# Altium footprint library MolexModularJacks.PcbLib: 1 footprints
Each footprint in its own frame and in the unit in brackets; x right, y up, seen from the top. Pads: shape width x height; smd on the part's side, far side on the other; paste and mask are expansions set on the pad; w line width, h text height; cw(c..) or ccw(c..) is an arc to the next point about the centre after c.
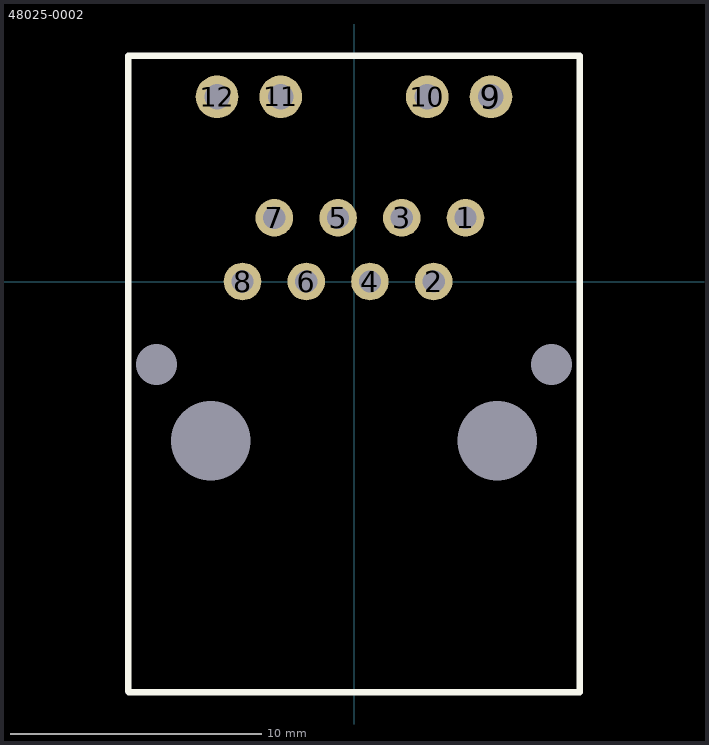
[diagram p0: the footprint, top view; thin cyan lines are the x and y axes]

## 48025-0002 [mm] "Modular RJ45 Jack w/ Magnetics & LEDs"
pads (16):
  round 1.5 hole 0.89: 1(4.445,2.54) 2(3.175,0) 3(1.905,2.54) 4(0.635,0) 5(-0.635,2.54) 6(-1.905,0) 7(-3.175,2.54) 8(-4.445,0)
  round 1.7 hole 1.02: 9(5.461,7.366) 10(2.921,7.366) 11(-2.921,7.366) 12(-5.461,7.366)
  round 0 hole 1.63 unplated: ""(-7.874,-3.302) ""(7.874,-3.302)
  round 0 hole 3.18 unplated: ""(-5.715,-6.35) ""(5.715,-6.35)
Top Overlay:
  lines w0.254: -9,-16.35 -9,9 9,9 9,-16.375 -8.975,-16.375 -9,-16.35
3D body: height 14.9, standoff 0, extent -9.127,-16.502 9.127,9.127